# EAGLE library part AD9706 (library AnalogDevices)
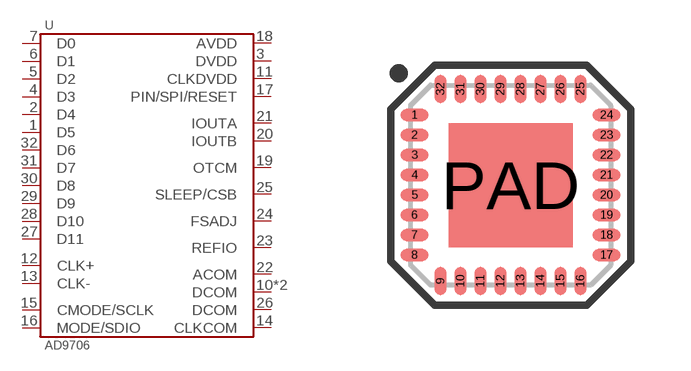
[diagram p3: symbol with the pads of VQFN-32-5MM; footprint VQFN-32-5MM]

Designator prefix U

## AD9706BCPZ  [VQFN-32-5MM]
1  D5
2  D4
3  DVDD
4  D3
5  D2
6  D1
7  D0
10  DCOM
11  CLKDVDD
12  CLK+
13  CLK-
14  CLKCOM
15  CMODE/SCLK
16  MODE/SDIO
17  PIN/SPI/RESET
18  AVDD
19  OTCM
20  IOUTB
21  IOUTA
22  ACOM
23  REFIO
24  FSADJ
25  SLEEP/CSB
26  DCOM
27  D11
28  D10
29  D9
30  D8
31  D7
32  D6
PAD  DCOM

## Footprint VQFN-32-5MM (pad centres in mm)
smd 0.7 x 0.3: 1 -2.4,1.75; 2 -2.4,1.25; 3 -2.4,0.75; 4 -2.4,0.25; 5 -2.4,-0.25; 6 -2.4,-0.75; 7 -2.4,-1.25; 8 -2.4,-1.75; 17 2.4,-1.75; 18 2.4,-1.25; 19 2.4,-0.75; 20 2.4,-0.25; 21 2.4,0.25; 22 2.4,0.75; 23 2.4,1.25; 24 2.4,1.75
smd 0.3 x 0.7: 9 -1.75,-2.4; 10 -1.25,-2.4; 11 -0.75,-2.4; 12 -0.25,-2.4; 13 0.25,-2.4; 14 0.75,-2.4; 15 1.25,-2.4; 16 1.75,-2.4; 25 1.75,2.4; 26 1.25,2.4; 27 0.75,2.4; 28 0.25,2.4; 29 -0.25,2.4; 30 -0.75,2.4; 31 -1.25,2.4; 32 -1.75,2.4
smd 3.1 x 3.1: PAD 0,0